# Altium footprint library RSX_Relays.PcbLib: 1 footprints
Each footprint in its own frame and in the unit in brackets; x right, y up, seen from the top. Pads: shape width x height; smd on the part's side, far side on the other; paste and mask are expansions set on the pad; w line width, h text height; cw(c..) or ccw(c..) is an arc to the next point about the centre after c.
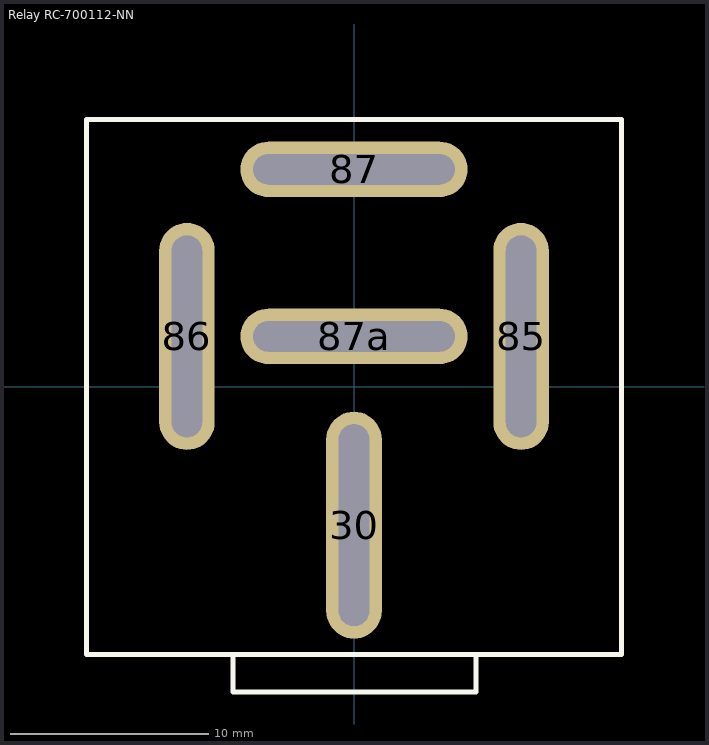
[diagram p0: the footprint, top view; thin cyan lines are the x and y axes]

## Relay RC-700112-NN [mil]
pads (5):
  oval 110x450 hole 400 slot 60 at 0 deg: 30(0,-274) 85(331,100) 86(-331,100)
  oval 450x110 hole 400 slot 60 at 90 deg: 87(0,431) 87a(0,100)
Top Overlay:
  lines w10: -240,-535 -240,-605 240.18,-605 ; -163.17,-530 -160,-530 ; 241.9,-605 241.9,-535 ; -530,-530 0,-530 530,-530 530,0 530,530 0,530 -530,530 -530,0 -530,-530